# EAGLE library part 418217270906 (library EAGLE-TACT_SWITCHES-rev16e)
WS-RA 2.54 mm right angled compact THT Dip Switch with raised actuator, 6 Pole
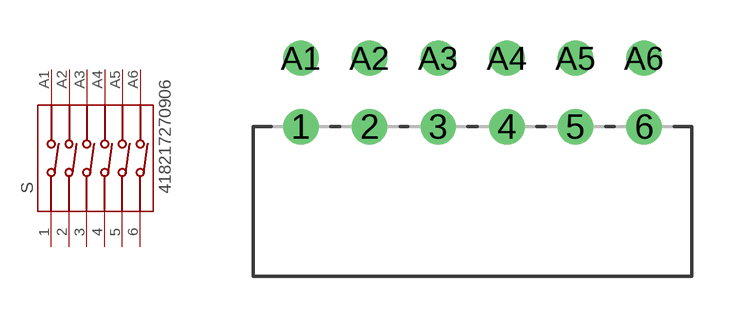
[diagram p52: symbol with the pads of 418217270906; footprint 418217270906]

Designator prefix S

## 418217270906  [418217270906]
1  1  pas
2  2  pas
3  3  pas
4  4  pas
5  5  pas
6  6  pas
A1  A1  pas
A2  A2  pas
A3  A3  pas
A4  A4  pas
A5  A5  pas
A6  A6  pas

## Footprint 418217270906 (pad centres in mm)
WS-RA 2.54 mm right angled compact THT Dip Switch with raised actuator, 6 Pole
drill 0.8: 1 -6.35,-1.27; 2 -3.81,-1.27; 3 -1.27,-1.27; 4 1.27,-1.27; 5 3.81,-1.27; 6 6.35,-1.27; A1 -6.35,1.27; A2 -3.81,1.27; A3 -1.27,1.27; A4 1.27,1.27; A5 3.81,1.27; A6 6.35,1.27